# Altium footprint library PMIC - Power Distribution Switches.PcbLib: 1 footprints
Each footprint in its own frame and in the unit in brackets; x right, y up, seen from the top. Pads: shape width x height; smd on the part's side, far side on the other; paste and mask are expansions set on the pad; w line width, h text height; cw(c..) or ccw(c..) is an arc to the next point about the centre after c.
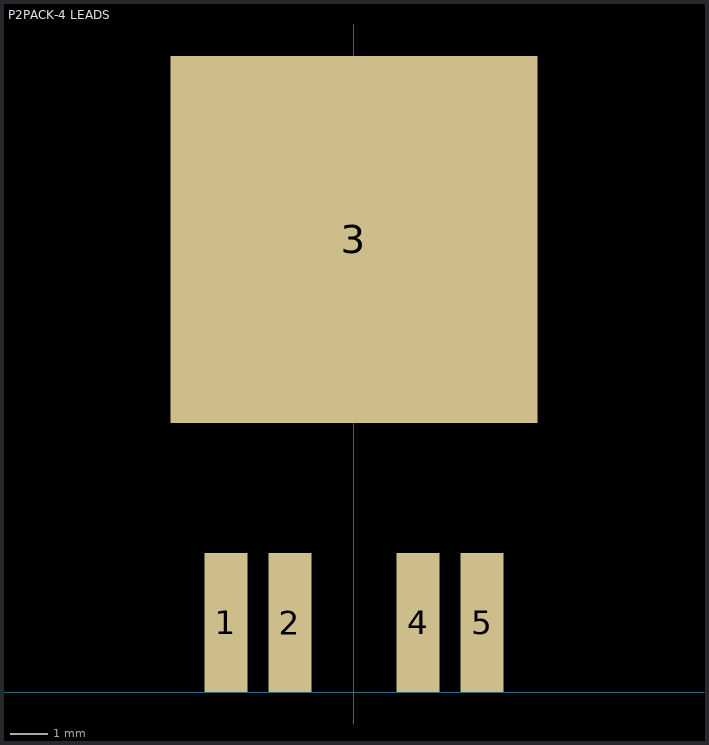
[diagram p0: the footprint, top view; thin cyan lines are the x and y axes]

## P2PACK-4 LEADS [mm]
pads (5):
  rect 1.15x3.7 smd: 1(-3.4,1.85) 2(-1.7,1.85) 4(1.7,1.85) 5(3.4,1.85)
  rect 9.75x9.75 smd: 3(0,12.025)
3D body "User Library-P2PAK_A.STEP": height 4.56, standoff 0.01, extent -5.2,1.288 5,16.712